# EAGLE library part MAG3110 (library firefly)
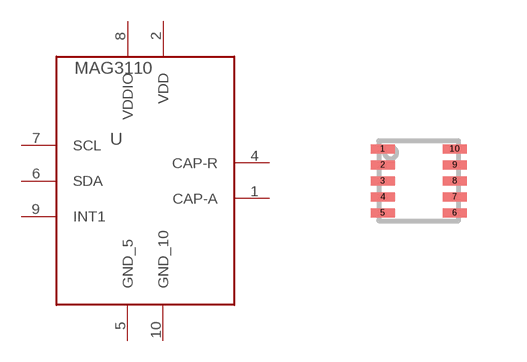
[diagram p3: symbol with the pads of DFN10-2X2; footprint DFN10-2X2]

Designator prefix -

## MAG3110  [DFN10-2X2]
1  CAP-A
2  VDD
4  CAP-R
5  GND_5
6  SDA
7  SCL
8  VDDIO
9  INT1
10  GND_10

## Footprint DFN10-2X2 (pad centres in mm)
smd 0.6 x 0.225: 1 -0.9,0.8; 2 -0.9,0.4; 3 -0.9,0; 4 -0.9,-0.4; 5 -0.9,-0.8; 6 0.9,-0.8; 7 0.9,-0.4; 8 0.9,0; 9 0.9,0.4; 10 0.9,0.8